# Altium integrated library ALTIUM-WL-SMDC-rev18c.IntLib: 7 symbols
Pins are listed as number, name and electrical type; pins without a type are passive.

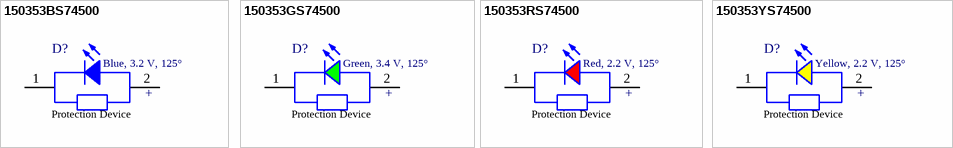
[diagram p0: symbols 150353BS74500 to 150353YS74500]

## 150353BS74500
designator D?, comment Blue, 3.2 V, 125°
WL-SMDC SMD Mono-color Ceramic LED Waterclear, size 3535, Blue, 3.2 V, 125°; Part Number: 150353BS74500; Forward Voltage: 3.2 V; Peak Wavelength: 455 nm; Dominant Wavelength: 460 nm; Luminous Flux: 25 lm; ComponentLink1Description: Manufacturer; ComponentLink1URL: http://www.we-online.de; ComponentLink2Description: Datasheet; ComponentLink2URL: http://katalog.we-online.de/led/datasheet/150353BS74500.pdf; Published Date: May 2018; Publisher: Wurth Elektronik; Size: 3535; Viewing Angle: 125°; Operating Temperature: -40 to 125 degC; Emitting Color: Blue; Mounting Technology: SMT
footprint WL-SMDC_3535
pins: 1 K, 2 A
text: +; Protection Device

## 150353GS74500
designator D?, comment Green, 3.4 V, 125°
WL-SMDC SMD Mono-color Ceramic LED Waterclear, size 3535, Green, 3.4 V, 125°; Part Number: 150353GS74500; Forward Voltage: 3.4 V; Peak Wavelength: 520 nm; Dominant Wavelength: 525 nm; Luminous Flux: 85 lm; ComponentLink1Description: Manufacturer; ComponentLink1URL: http://www.we-online.de; ComponentLink2Description: Datasheet; ComponentLink2URL: http://katalog.we-online.de/led/datasheet/150353GS74500.pdf; Published Date: May 2018; Publisher: Wurth Elektronik; Size: 3535; Viewing Angle: 125°; Operating Temperature: -40 to 125 degC; Emitting Color: Green; Mounting Technology: SMT
footprint WL-SMDC_3535
pins: 1 K, 2 A
text: +; Protection Device

## 150353RS74500
designator D?, comment Red, 2.2 V, 125°
WL-SMDC SMD Mono-color Ceramic LED Waterclear, size 3535, Red, 2.2 V, 125°; Part Number: 150353RS74500; Forward Voltage: 2.2 V; Peak Wavelength: 635 nm; Dominant Wavelength: 625 nm; Luminous Flux: 55 lm; ComponentLink1Description: Manufacturer; ComponentLink1URL: http://www.we-online.de; ComponentLink2Description: Datasheet; ComponentLink2URL: http://katalog.we-online.de/led/datasheet/150353RS74500.pdf; Published Date: May 2018; Publisher: Wurth Elektronik; Size: 3535; Viewing Angle: 125°; Operating Temperature: -40 to 125 degC; Emitting Color: Red; Mounting Technology: SMT
footprint WL-SMDC_3535
pins: 1 K, 2 A
text: +; Protection Device

## 150353YS74500
designator D?, comment Yellow, 2.2 V, 125°
WL-SMDC SMD Mono-color Ceramic LED Waterclear, size 3535, Yellow, 2.2 V, 125°; Part Number: 150353YS74500; Forward Voltage: 2.2 V; Peak Wavelength: 593 nm; Dominant Wavelength: 590 nm; Luminous Flux: 50 lm; ComponentLink1Description: Manufacturer; ComponentLink1URL: http://www.we-online.de; ComponentLink2Description: Datasheet; ComponentLink2URL: http://katalog.we-online.de/led/datasheet/150353YS74500.pdf; Published Date: May 2018; Publisher: Wurth Elektronik; Size: 3535; Viewing Angle: 125°; Operating Temperature: -40 to 125 degC; Emitting Color: Yellow; Mounting Technology: SMT
footprint WL-SMDC_3535
pins: 1 K, 2 A
text: +; Protection Device


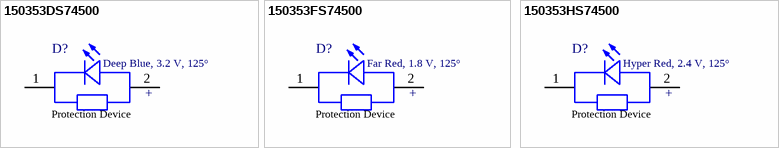
[diagram p1: symbols 150353DS74500 to 150353HS74500]

## 150353DS74500
designator D?, comment Deep Blue, 3.2 V, 125°
WL-SMDC SMD Mono-color Ceramic LED Waterclear, size 3535, Deep Blue, 3.2 V, 125°; Part Number: 150353DS74500; Forward Voltage: 3.2 V; Peak Wavelength: 450 nm; Radiant Flux: 600 mW; ComponentLink1Description: Manufacturer; ComponentLink1URL: http://www.we-online.de; ComponentLink2Description: Datasheet; ComponentLink2URL: http://katalog.we-online.de/led/datasheet/150353DS74500.pdf; Published Date: May 2018; Publisher: Wurth Elektronik; Size: 3535; Viewing Angle: 125°; Operating Temperature: -40 to 100 degC; Emitting Color: Deep Blue; Mounting Technology: SMT
footprint WL-SMDC_3535_Horticulture
pins: 1 K, 2 A
text: +; Protection Device

## 150353FS74500
designator D?, comment Far Red, 1.8 V, 125°
WL-SMDC SMD Mono-color Ceramic LED Waterclear, size 3535, Far Red, 1.8 V, 125°; Part Number: 150353FS74500; Forward Voltage: 1.8 V; Peak Wavelength: 730 nm; Radiant Flux: 240 mW; Emitting Color: Far Red; ComponentLink1Description: Manufacturer; ComponentLink1URL: http://www.we-online.de; ComponentLink2Description: Datasheet; ComponentLink2URL: http://katalog.we-online.de/led/datasheet/150353FS74500.pdf; Published Date: May 2018; Publisher: Wurth Elektronik; Size: 3535; Viewing Angle: 125°; Operating Temperature: -40 to 100 degC; Mounting Technology: SMT
footprint WL-SMDC_3535_Horticulture
pins: 1 K, 2 A
text: +; Protection Device

## 150353HS74500
designator D?, comment Hyper Red, 2.4 V, 125°
WL-SMDC SMD Mono-color Ceramic LED Waterclear, size 3535, Hyper Red, 2.4 V, 125°; Part Number: 150353HS74500; Forward Voltage: 2.4 V; Peak Wavelength: 660 nm; Radiant Flux: 330 mW; ComponentLink1Description: Manufacturer; ComponentLink1URL: http://www.we-online.de; ComponentLink2Description: Datasheet; ComponentLink2URL: http://katalog.we-online.de/led/datasheet/150353HS74500.pdf; Published Date: May 2018; Publisher: Wurth Elektronik; Size: 3535; Viewing Angle: 125°; Operating Temperature: -40 to 100 degC; Emitting Color: Hyper Red; Mounting Technology: SMT
footprint WL-SMDC_3535_Horticulture
pins: 1 K, 2 A
text: +; Protection Device